# Altium schematic symbol library SRlatch.SCHLIB: 3 symbols
Pins are listed as number, name and electrical type; pins without a type are passive.

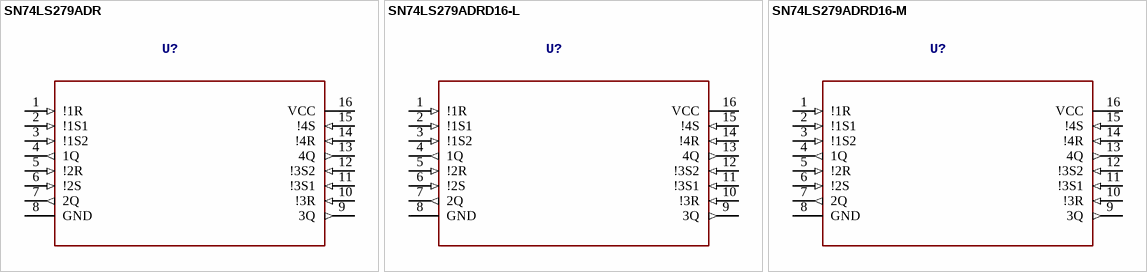
[diagram p0: symbols SN74LS279ADR to SN74LS279ADRD16-M]

## SN74LS279ADR
designator U?
MANUFACTURER: Texas Instruments; GateName_1: A; SymbolName_1: SN74LS279A_D_16; DeviceSetName: SN74LS279ADR; BUILT_BY: EMA_UL_Team; LibraryName: SRlatch; Package: D16; MANUFACTURER_PART_NUMBER: SN74LS279ADR; VENDOR: Vendor
footprint D16
pins: 1 !1R (in), 2 !1S1 (in), 3 !1S2 (in), 4 1Q (out), 5 !2R (in), 6 !2S (in), 7 2Q (out), 8 GND (power), 9 3Q (out), 10 !3R (in), 11 !3S1 (in), 12 !3S2 (in), 13 4Q (out), 14 !4R (in), 15 !4S (in), 16 VCC (power)

## SN74LS279ADRD16-L
designator U?
MANUFACTURER: Texas Instruments; GateName_1: A; SymbolName_1: SN74LS279A_D_16; DeviceName: D16-L; DeviceSetName: SN74LS279ADR; BUILT_BY: EMA_UL_Team; LibraryName: SRlatch; Package: D16-L; MANUFACTURER_PART_NUMBER: SN74LS279ADR; VENDOR: Vendor
footprint D16-L
pins: 1 !1R (in), 2 !1S1 (in), 3 !1S2 (in), 4 1Q (out), 5 !2R (in), 6 !2S (in), 7 2Q (out), 8 GND (power), 9 3Q (out), 10 !3R (in), 11 !3S1 (in), 12 !3S2 (in), 13 4Q (out), 14 !4R (in), 15 !4S (in), 16 VCC (power)

## SN74LS279ADRD16-M
designator U?
MANUFACTURER: Texas Instruments; GateName_1: A; SymbolName_1: SN74LS279A_D_16; DeviceName: D16-M; DeviceSetName: SN74LS279ADR; BUILT_BY: EMA_UL_Team; LibraryName: SRlatch; Package: D16-M; MANUFACTURER_PART_NUMBER: SN74LS279ADR; VENDOR: Vendor
footprint D16-M
pins: 1 !1R (in), 2 !1S1 (in), 3 !1S2 (in), 4 1Q (out), 5 !2R (in), 6 !2S (in), 7 2Q (out), 8 GND (power), 9 3Q (out), 10 !3R (in), 11 !3S1 (in), 12 !3S2 (in), 13 4Q (out), 14 !4R (in), 15 !4S (in), 16 VCC (power)